# EAGLE library part PREC070F9X1R90 (library con-pinheader-male-female)
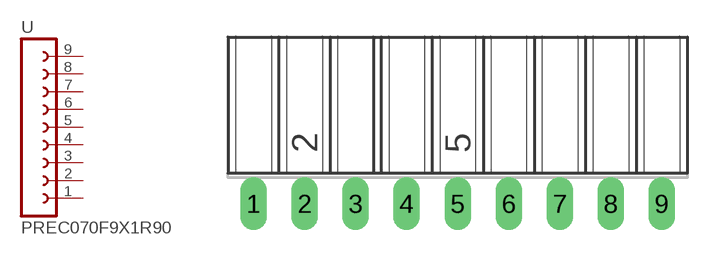
[diagram p3: symbol with the pads of PREC070F9X1R90; footprint PREC070F9X1R90]

Designator prefix -

## PREC070F9X1R90  [PREC070F9X1R90]
1  1  pas
2  2  pas
3  3  pas
4  4  pas
5  5  pas
6  6  pas
7  7  pas
8  8  pas
9  9  pas

## Footprint PREC070F9X1R90 (pad centres in mm)
female precision header
drill 0.813 long: 1 -10.16,0; 2 -7.62,0; 3 -5.08,0; 4 -2.54,0; 5 0,0; 6 2.54,0; 7 5.08,0; 8 7.62,0; 9 10.16,0